# EAGLE library part CAN_TRANS (library NFR23_v1.1)
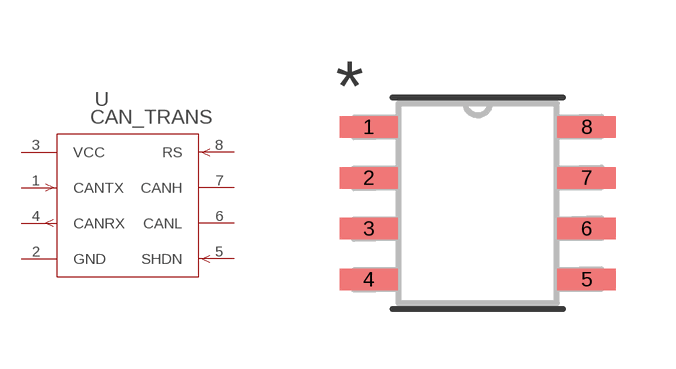
[diagram p0: symbol with the pads of MAX3051ESA+; footprint MAX3051ESA+]

Designator prefix U

## CAN_TRANSCAN_TRANS (COPYRIGHT: Copyright (C) 2022 Ultra Librarian. All rights reserved.; DIGI-KEY_PART_NUMBER_1: MAX3051ESA+-ND; MANUFACTURER_PART_NUMBER: MAX3051ESA+; MFR_NAME: Maxim Integrated Products)  [MAX3051ESA+]
1  CANTX  in
2  GND  pwr
3  VCC  pwr
4  CANRX  out
5  SHDN  in
6  CANL  pas
7  CANH  pas
8  RS  in

## Footprint MAX3051ESA+ (pad centres in mm)
smd 1.46 x 0.533: 1 -2.724,1.905; 2 -2.724,0.635; 3 -2.724,-0.635; 4 -2.724,-1.905; 5 2.724,-1.905; 6 2.724,-0.635; 7 2.724,0.635; 8 2.724,1.905